# Altium schematic symbol library IND(1uH, 7A, 20mOhm, 62MHz, SMD).SchLib: 1 symbol
Pins are listed as number, name and electrical type; pins without a type are passive.

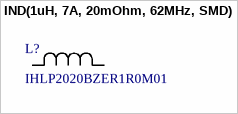
[diagram p0: symbol IND(1uH, 7A, 20mOhm, 62MHz, SMD)]

## IND(1uH, 7A, 20mOhm, 62MHz, SMD)
designator L?, comment IHLP2020BZER1R0M01
IHLP-2020BZ-01 1.0 20% ER e3; Manufacturer: Vishay; Copyright: Copyright (C) 2025 Ultra Librarian. All rights reserved.; Manufacturer_PN: IHLP2020BZER1R0M01; Package: SMD; Datasheet: https://www.vishay.com/doc?34253; Digikey_Link: https://www.digikey.it/en/products/detail/vishay-dale/IHLP2020BZER1R0M01/1869310
footprint IND_IHLP_2020_BZ_VIS
pins: 1, 2